# Altium footprint library LED_3MM_DUAL.PcbLib: 1 footprints
Each footprint in its own frame and in the unit in brackets; x right, y up, seen from the top. Pads: shape width x height; smd on the part's side, far side on the other; paste and mask are expansions set on the pad; w line width, h text height; cw(c..) or ccw(c..) is an arc to the next point about the centre after c.
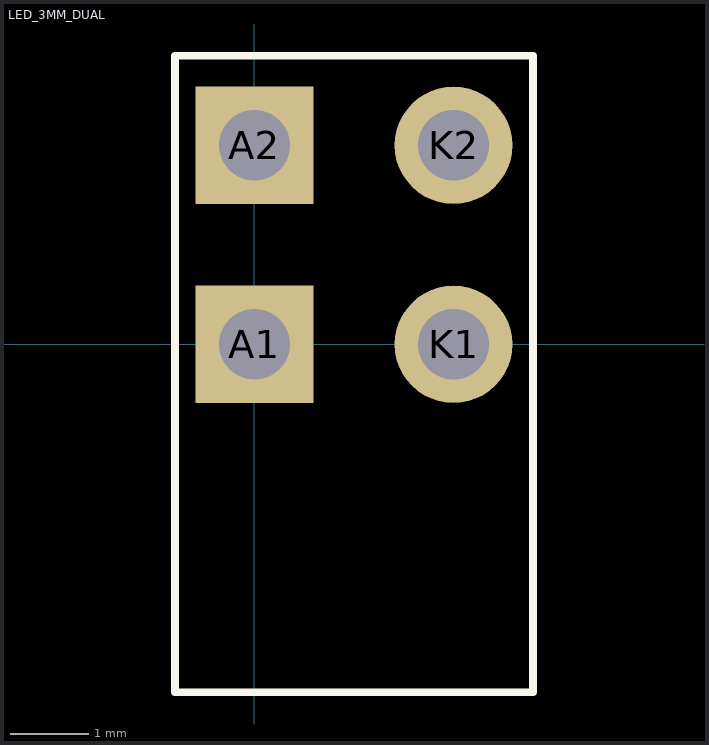
[diagram p0: the footprint, top view; thin cyan lines are the x and y axes]

## LED_3MM_DUAL [mm]
pads (4):
  rect 1.5x1.5 hole 0.9: A1(0,0) A2(0,2.54)
  round 1.5 hole 0.9: K1(2.54,0) K2(2.54,2.54)
Top Overlay:
  lines w0.1: -1.016,-4.439 3.556,-4.439 3.556,3.683 -0.889,3.683 -1.016,3.683 -1.016,-4.439
3D body: height 9.65, standoff -3.68, extent -0.871,-7.243 3.429,3.687